# Altium footprint library CapstonePcbLib.PcbLib: 14 footprints
Each footprint in its own frame and in the unit in brackets; x right, y up, seen from the top. Pads: shape width x height; smd on the part's side, far side on the other; paste and mask are expansions set on the pad; w line width, h text height; cw(c..) or ccw(c..) is an arc to the next point about the centre after c.
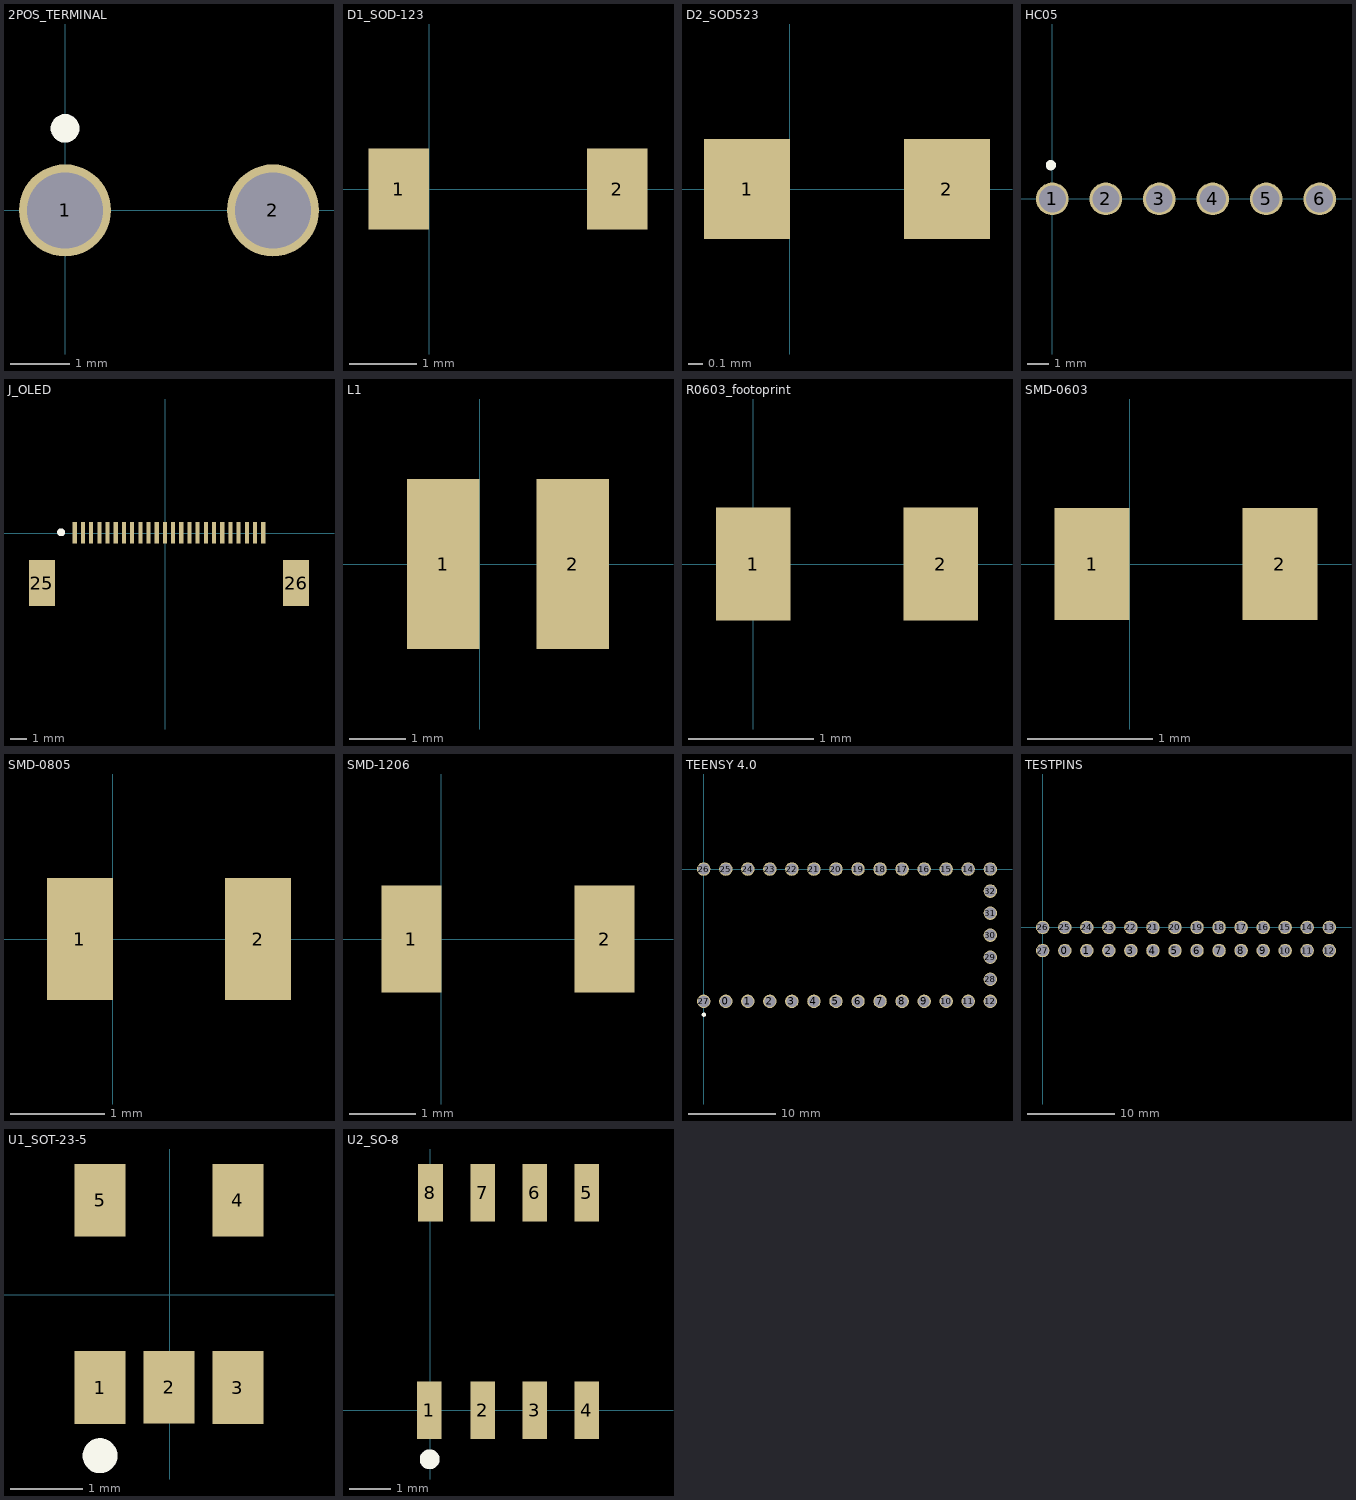
[diagram p0: the footprints below, top view; thin cyan lines are the x and y axes]

## 2POS_TERMINAL [mm]
pads (2):
  round 1.55 hole 1.28: 1(0,0) 2(3.5,0)
Top Overlay:
  circle w0.254: c0,1.38 r0.114

## D1_SOD-123 [mm]
pads (2):
  rect 0.91x1.22 smd: 1(-0.456,0) 2(2.815,0)

## D2_SOD523 [mm]
pads (2):
  rect 0.6x0.7 smd: 1(-0.3,0) 2(1.1,0)

## HC05 [mm]
pads (6):
  round 1.55 hole 1.28: 1(0,0) 2(2.54,0) 3(5.08,0) 4(7.62,0) 5(10.16,0) 6(12.7,0)
Top Overlay:
  circle w0.254: c-0.07,1.6 r0.114

## J_OLED [mm]
pads (26):
  rect 0.25x1.3 smd: 1(-5.51,0.03) 2(-5.01,0.03) 3(-4.51,0.03) 4(-4.01,0.03) 5(-3.51,0.03) 6(-3.01,0.03) 7(-2.51,0.03) 8(-2.01,0.03) 9(-1.51,0.03) 10(-1.01,0.03) 11(-0.51,0.03) 12(-0.01,0.03) 13(0.49,0.03) 14(0.99,0.03) 15(1.49,0.03) 16(1.99,0.03) 17(2.49,0.03) 18(2.99,0.03) 19(3.49,0.03) 20(3.99,0.03) 21(4.49,0.03) 22(4.99,0.03) 23(5.49,0.03) 24(5.99,0.03)
  rect 1.6x2.8 smd: 25(-7.51,-3.05) 26(7.99,-3.05)
Top Overlay:
  circle w0.254: c-6.34,0.05 r0.114

## L1 [mm]
pads (2):
  rect 1.3x3.05 smd: 1(-0.65,0) 2(1.67,0)

## R0603_footoprint [mm]
pads (2):
  rect 0.6x0.9 smd: 1(0,0) 2(1.5,0)
3D body "RNCF0603_stp.stp": height 0.11, standoff -0.34, extent -0.013,-0.381 1.537,0.419

## SMD-0603 [mm]
pads (2):
  rect 0.6x0.9 smd: 1(-0.302,0) 2(1.2,0)

## SMD-0805 [mm]
pads (2):
  rect 0.7x1.3 smd: 1(-0.35,0) 2(1.55,0)

## SMD-1206 [mm]
pads (2):
  rect 0.9x1.6 smd: 1(-0.45,0) 2(2.45,0)

## TEENSY 4.0 [mm]
pads (33):
  round 1.55 hole 1.28: 0(2.54,-15.24) 1(5.08,-15.24) 2(7.62,-15.24) 3(10.16,-15.24) 4(12.7,-15.24) 5(15.24,-15.24) 6(17.78,-15.24) 7(20.32,-15.24) 8(22.86,-15.24) 9(25.4,-15.24) 10(27.94,-15.24) 11(30.48,-15.24) 12(33.02,-15.24) 13(33.02,0) 14(30.48,0) 15(27.94,0) 16(25.4,0) 17(22.86,0) 18(20.32,0) 19(17.78,0) 20(15.24,0) 21(12.7,0) 22(10.16,0) 23(7.62,0) 24(5.08,0) 25(2.54,0) 26(0,0) 27(0,-15.24) 28(33.02,-12.7) 29(33.02,-10.16) 30(33.02,-7.62) 31(33.02,-5.08) 32(33.02,-2.54)
Top Overlay:
  circle w0.254: c0.01,-16.78 r0.114

## TESTPINS [mm]
pads (28):
  round 1.55 hole 1.28: 0(2.54,-2.667) 1(5.08,-2.667) 2(7.62,-2.667) 3(10.16,-2.667) 4(12.7,-2.667) 5(15.24,-2.667) 6(17.78,-2.667) 7(20.32,-2.667) 8(22.86,-2.667) 9(25.4,-2.667) 10(27.94,-2.667) 11(30.48,-2.667) 12(33.02,-2.667) 13(33.02,0) 14(30.48,0) 15(27.94,0) 16(25.4,0) 17(22.86,0) 18(20.32,0) 19(17.78,0) 20(15.24,0) 21(12.7,0) 22(10.16,0) 23(7.62,0) 24(5.08,0) 25(2.54,0) 26(0,0) 27(0,-2.667)

## U1_SOT-23-5 [mm]
pads (5):
  rect 0.7x1 smd: 1(-0.96,-1.28) 2(-0.01,-1.279) 3(0.94,-1.28) 4(0.94,1.3) 5(-0.96,1.3)
Top Overlay:
  circle w0.254: c-0.96,-2.22 r0.114

## U2_SO-8 [mm]
pads (8):
  rect 0.6x1.4 smd: 1(-0.03,0) 2(1.27,0) 3(2.54,0) 4(3.81,0) 5(3.81,5.3) 6(2.54,5.3) 7(1.27,5.3) 8(0,5.3)
Top Overlay:
  circle w0.254: c-0.02,-1.2 r0.114